# Altium footprint library Aluminum Electrolytic Capacitors Leaded.PcbLib: 3 footprints
Each footprint in its own frame and in the unit in brackets; x right, y up, seen from the top. Pads: shape width x height; smd on the part's side, far side on the other; paste and mask are expansions set on the pad; w line width, h text height; cw(c..) or ccw(c..) is an arc to the next point about the centre after c.
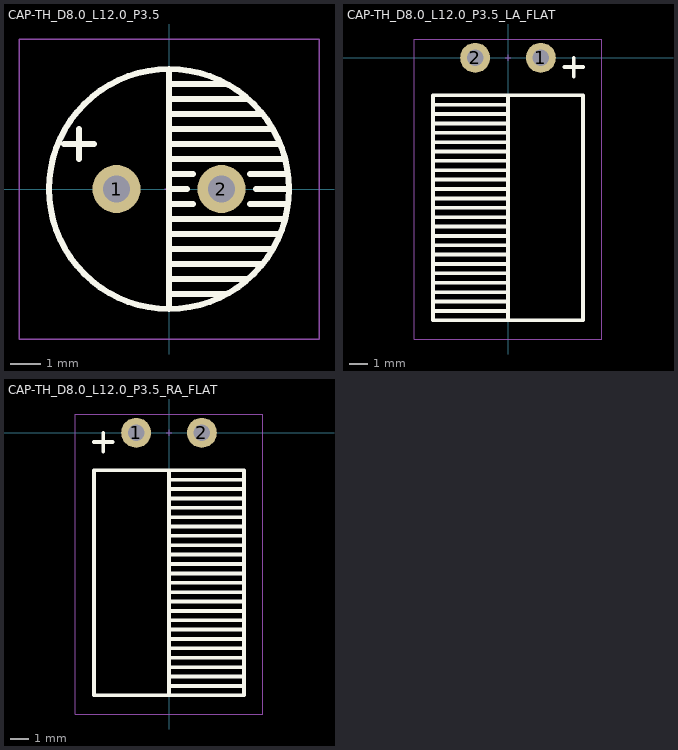
[diagram p0: the footprints below, top view; thin cyan lines are the x and y axes]

## CAP-TH_D8.0_L12.0_P3.5 [mm]
height 5.5
pads (2):
  round 1.6 hole 0.9 mask+0.05: 1(-1.75,0) 2(1.75,0)
Top Overlay:
  circle w0.2: c0,0 r4
  lines w0.2: -3.5,1.5 -2.5,1.5 ; -3,1 -3,2 ; 0,-4 0,4 ; 0,-3.5 1.9,-3.5 ; 0,-3 2.6,-3 ; 0,-2.5 3.1,-2.5 ; 0,-2 3.4,-2 ; 0,-1.5 3.7,-1.5 ; 0,-1 3.8,-1 ; 0,-0.5 0.8,-0.5 ; 0,0 0.6,0 ; 0,0.5 0.8,0.5 ; 0,1 3.8,1 ; 0,1.5 3.7,1.5 ; 0,2 3.4,2 ; 0,2.5 3.1,2.5 ; 0,3 2.6,3 ; 0,3.5 1.9,3.5 ; 2.7,-0.5 3.9,-0.5 ; 2.7,0.5 3.9,0.5 ; 2.9,0 4,0
Top Assembly:
  circle w0.05: c0,0 r4
Top Courtyard:
  lines w0.05: -5,-5 5,-5 5,5 -5,5 -5,-5
Top Component Center:
  lines w0.05: -0.15,0 0.15,0 ; 0,-0.15 0,0.15

## CAP-TH_D8.0_L12.0_P3.5_LA_FLAT [mm]
height 5.5
pads (2):
  round 1.6 hole 0.9 mask+0.05: 1(1.75,0) 2(-1.75,0)
Top Overlay:
  lines w0.2: -4,-13.5 0,-13.5 ; -4,-13 0,-13 ; -4,-12.5 0,-12.5 ; -4,-12 0,-12 ; -4,-11.5 0,-11.5 ; -4,-11 0,-11 ; -4,-10.5 0,-10.5 ; -4,-10 0,-10 ; -4,-9.5 0,-9.5 ; -4,-9 0,-9 ; -4,-8.5 0,-8.5 ; -4,-8 0,-8 ; -4,-7.5 0,-7.5 ; -4,-7 0,-7 ; -4,-6.5 0,-6.5 ; -4,-6 0,-6 ; -4,-5.5 0,-5.5 ; -4,-5 0,-5 ; -4,-4.5 0,-4.5 ; -4,-4 0,-4 ; -4,-3.5 0,-3.5 ; -4,-3 0,-3 ; -4,-2.5 0,-2.5 ; 0,-14 0,-2 ; 3,-0.5 4,-0.5 ; 3.5,-1 3.5,0 ; -4,-14 -4,-2 4,-2 4,-14 -4,-14
Top Courtyard:
  lines w0.05: -5,-15 -5,1 5,1 5,-15 -5,-15
Top Component Center:
  lines w0.05: -0.15,0 0.15,0 ; 0,-0.15 0,0.15
3D body "ElCapLA-3.5-8x12.step": height 8.1, standoff -3, extent -4.001,-14.001 4,0.248

## CAP-TH_D8.0_L12.0_P3.5_RA_FLAT [mm]
height 5.5
pads (2):
  round 1.6 hole 0.9 mask+0.05: 1(-1.75,0) 2(1.75,0)
Top Overlay:
  lines w0.2: -4,-0.5 -3,-0.5 ; -3.5,-1 -3.5,0 ; 0,-14 0,-2 ; 0,-13.5 4,-13.5 ; 0,-13 4,-13 ; 0,-12.5 4,-12.5 ; 0,-12 4,-12 ; 0,-11.5 4,-11.5 ; 0,-11 4,-11 ; 0,-10.5 4,-10.5 ; 0,-10 4,-10 ; 0,-9.5 4,-9.5 ; 0,-9 4,-9 ; 0,-8.5 4,-8.5 ; 0,-8 4,-8 ; 0,-7.5 4,-7.5 ; 0,-7 4,-7 ; 0,-6.5 4,-6.5 ; 0,-6 4,-6 ; 0,-5.5 4,-5.5 ; 0,-5 4,-5 ; 0,-4.5 4,-4.5 ; 0,-4 4,-4 ; 0,-3.5 4,-3.5 ; 0,-3 4,-3 ; 0,-2.5 4,-2.5 ; -4,-14 4,-14 4,-2 -4,-2 -4,-14
Top Courtyard:
  lines w0.05: -5,-15 -5,1 5,1 5,-15 -5,-15
Top Component Center:
  lines w0.05: -0.15,0 0.15,0 ; 0,-0.15 0,0.15
3D body "ElCapRA-3.5-8x12.step": height 8.1, standoff -3, extent -4,-14.001 4.001,0.248